# EAGLE library part MICRO-SD-FD-HRS (library PonLib)
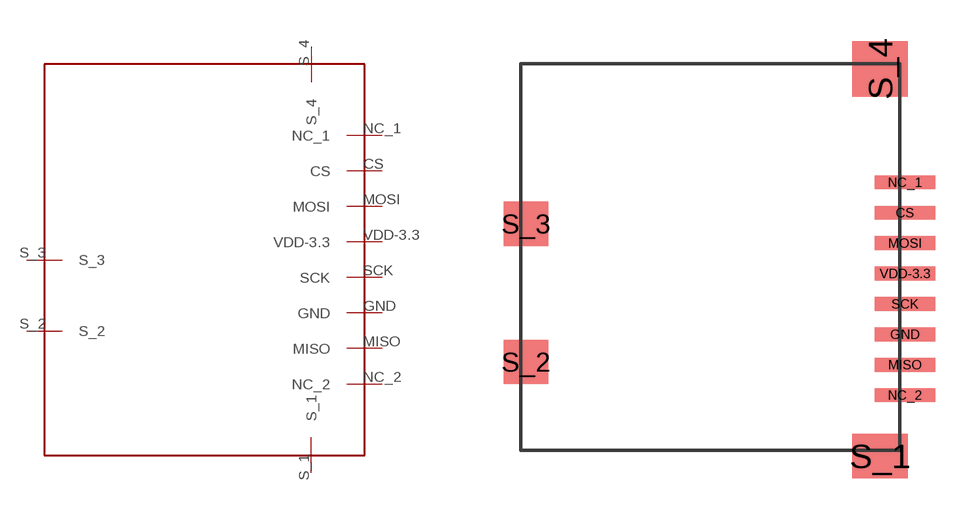
[diagram p18: symbol with the pads of MICRO-SD-FD-HRS; footprint MICRO-SD-FD-HRS]

Designator prefix -

## MICRO-SD-FD-HRS  [MICRO-SD-FD-HRS]
CS  CS
GND  GND
MISO  MISO
MOSI  MOSI
NC_1  NC_1
NC_2  NC_2
S_1  S_1
S_2  S_2
S_3  S_3
S_4  S_4
SCK  SCK
VDD-3.3  VDD-3.3

## Footprint MICRO-SD-FD-HRS (pad centres in mm)
smd 2.2 x 0.5: CS 6.9,1.6; GND 6.9,-2.8; MISO 6.9,-3.9; MOSI 6.9,0.5; NC_1 6.9,2.7; NC_2 6.9,-5; SCK 6.9,-1.7; VDD-3.3 6.9,-0.6
smd 2 x 1.6: S_1 6,-7.2
smd 1.6 x 1.6: S_2 -6.8,-3.8; S_3 -6.8,1.2
smd 2 x 2: S_4 6,6.8